# EAGLE library part TPS54325 (library probox-parts)
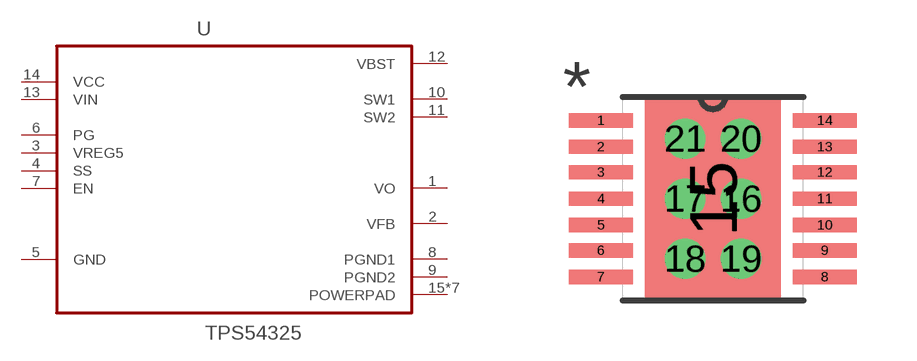
[diagram p0: symbol with the pads of PWP_R-PDSO-G14; footprint PWP_R-PDSO-G14]

Designator prefix U

## TPS54325 (DESCRIPTION: Positive High-Voltage Power-Limiting Hotswap Controller With Analog Current Monitor Output; MPN: TPS2492PW; OC_FARNELL: 1841884; OC_NEWARK: 86R1112; PACKAGE: TSSOP-14; SUPPLIER: TI)  [PWP_R-PDSO-G14]
1  VO  out
2  VFB  in
3  VREG5  in
4  SS  pas
5  GND  pas
6  PG  out
7  EN  in
8  PGND1  pas
9  PGND2  pas
10  SW1  out
11  SW2  out
12  VBST  out
13  VIN  pwr
14  VCC  pwr
15  POWERPAD  pas
16  POWERPAD  pas
17  POWERPAD  pas
18  POWERPAD  pas
19  POWERPAD  pas
20  POWERPAD  pas
21  POWERPAD  pas

## Footprint PWP_R-PDSO-G14 (pad centres in mm)
smd 1.6 x 0.356: 1 -2.8,1.956; 2 -2.8,1.295; 3 -2.8,0.66; 4 -2.8,0; 5 -2.8,-0.66; 6 -2.8,-1.295; 7 -2.8,-1.956; 8 2.8,-1.956; 9 2.8,-1.295; 10 2.8,-0.66; 11 2.8,0; 12 2.8,0.66; 13 2.8,1.295; 14 2.8,1.956
smd 3.4 x 5: 15 0,0
drill 0.5: 16 0.7,0; 17 -0.7,0; 18 -0.7,-1.5; 19 0.7,-1.5; 20 0.7,1.5; 21 -0.7,1.5